# Altium integrated library Microchip PIC16 Part 1.IntLib: 1800 symbols (part 29 of 93)
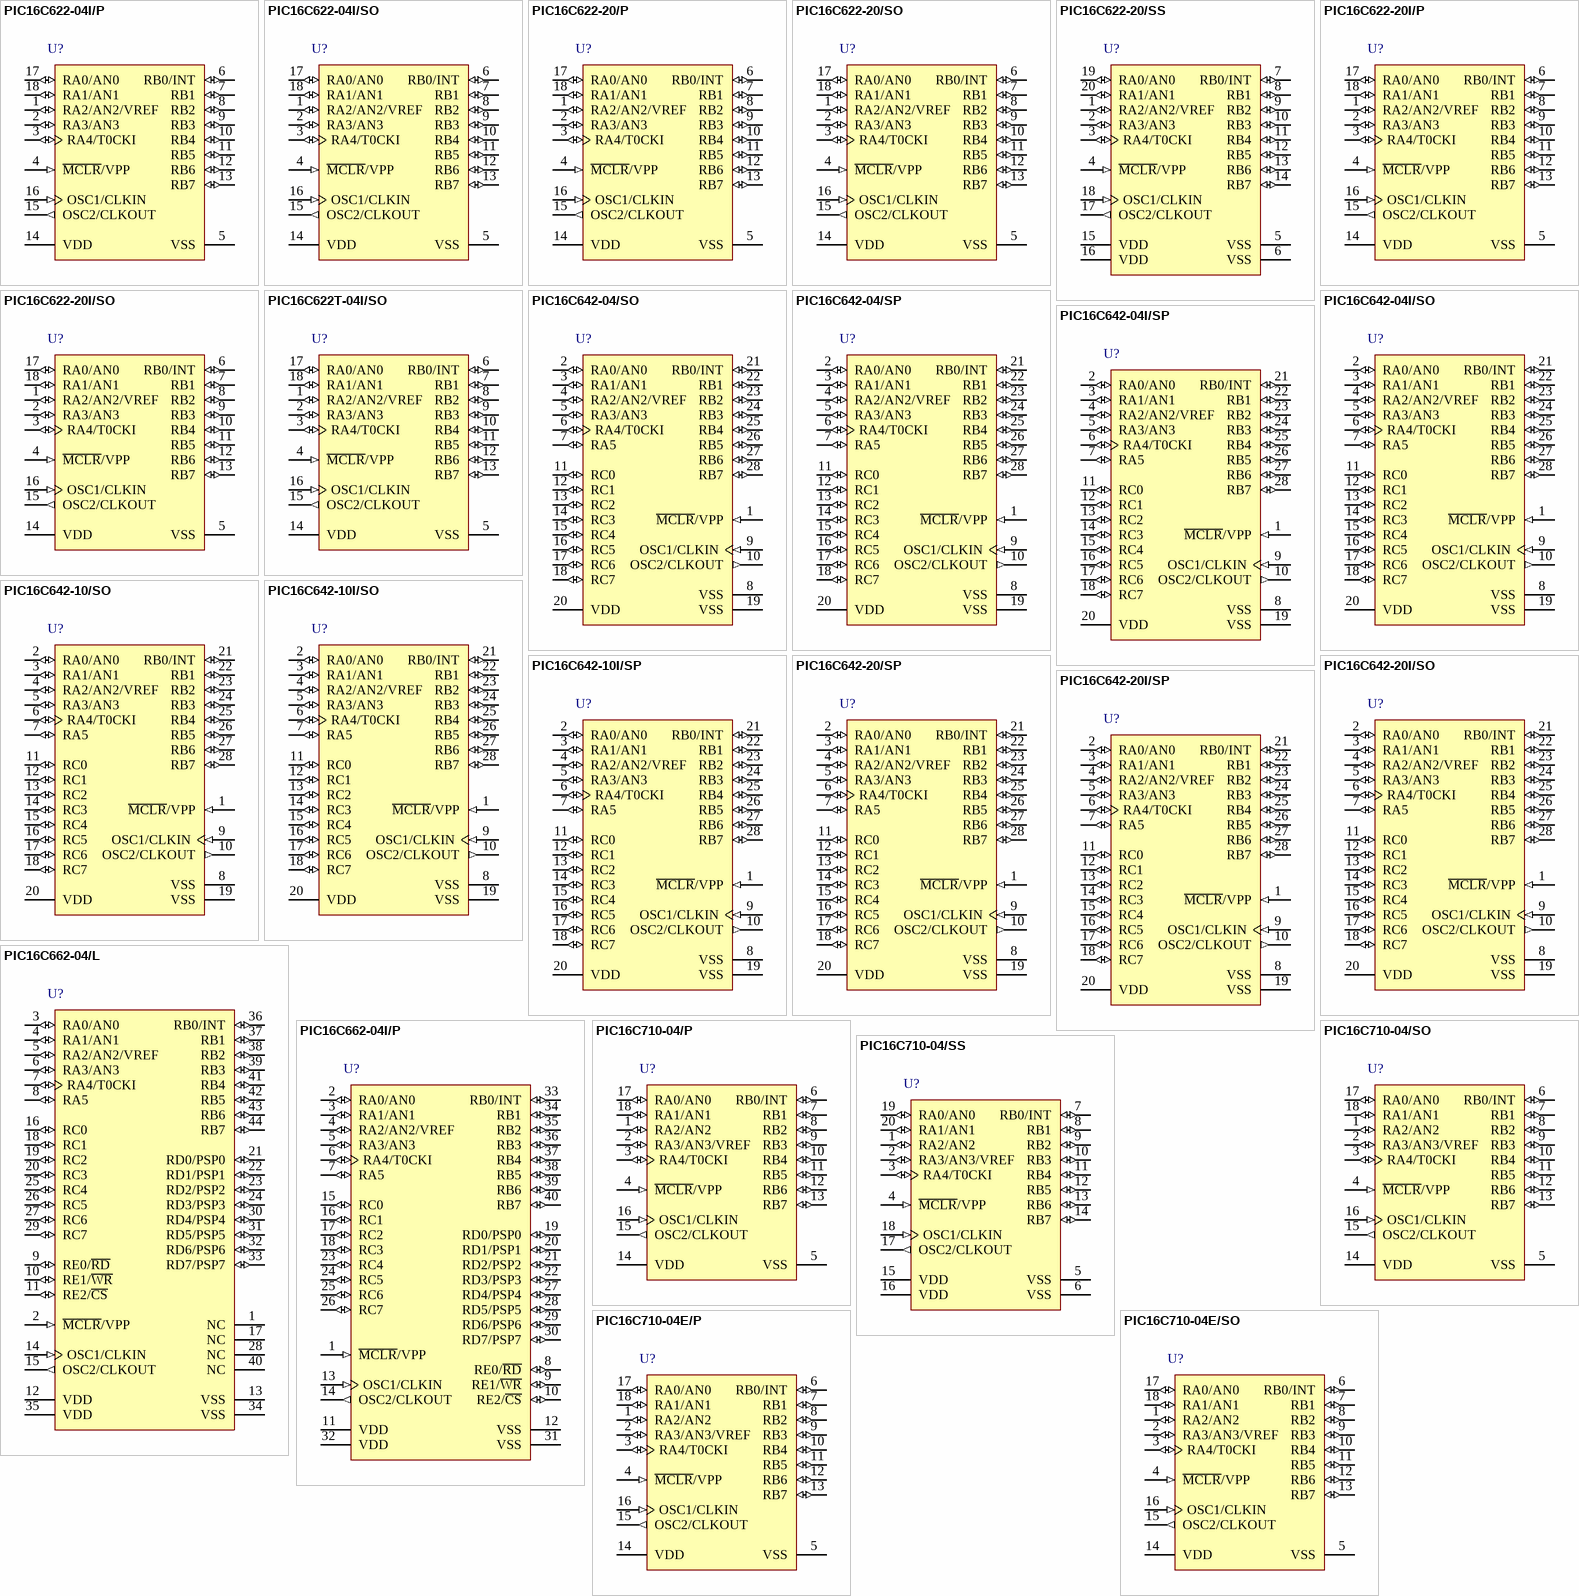
[diagram p128: symbols PIC16C622-04I/P to PIC16C710-04E/SO]

## PIC16C642-04I/SO
designator U?
8-Bit EPROM Microcontroller with Analog Comparator, 4 MHz, 22 I/O, -40 to 85 degC, 28-pin SOIC (SO28), Tube; Manufacturer: Microchip; PartNumber: PIC16C642-04I/SO; I/O Pins: 22; Max. CPU Speed MHz: 4; Memory Type: OTP; Operation Voltage Range: 3V - 6V; Program Memory KBytes: 7; RAM: 176; Timers: 1 - 8-bit; DatasheetVersion: Rev. A; PackageVersion: C04-052C, 12/2012; PackageReference: SOIC-SO28; PackageDescription: 28-Lead Plastic Small Outline, 17.9 x 7.5 mm Body, 1.27 mm Pitch; Supplier 1: Digi-Key; Supplier Part Number 1: PIC16C642-04I/SO-ND; Supplier 2: Mouser; Supplier Part Number 2: 579-PIC16C642-04I/SO; Packing: TUBE; Program Memory KWords: 4; RoHS: TRUE; Mounting Technology: Surface Mount; ComponentLink1Description: Datasheet; ComponentLink1URL: http://ww1.microchip.com/downloads/en/DeviceDoc/30559a.pdf; ComponentLink2Description: Package Specification; ComponentLink2URL: http://www.microchip.com/stellent/groups/techpub_sg/documents/packagingspec/en012702.pdf; ComponentLink3Description: URL Link1; ComponentLink3URL: Product URL:http://www.microchip.com/datasheet/PIC16C642
footprint MCHP-SOIC-SO28_N (SOIC, 28-Leads, Body 17.9x7.5mm, Pitch 1.27mm, IPC Medium Density)
footprint MCHP-SOIC-SO28_L (SOIC, 28-Leads, Body 17.9x7.5mm, Pitch 1.27mm, IPC High Density)
footprint MCHP-SOIC-SO28_M (SOIC, 28-Leads, Body 17.9x7.5mm, Pitch 1.27mm, IPC Low Density)
pins: 1 ~{MCLR}/VPP (in), 2 RA0/AN0 (io), 3 RA1/AN1 (io), 4 RA2/AN2/VREF (io), 5 RA3/AN3 (io), 6 RA4/T0CKI (io), 7 RA5 (io) "PORTA is a bi-directional I/O port.", 8 VSS (power) "Ground reference for logic and I/O pins.", 9 OSC1/CLKIN (in), 10 OSC2/CLKOUT (out), 11 RC0 (io) "PORTC is a bi-directional I/O port.", 12 RC1 (io) "PORTC is a bi-directional I/O port.", 13 RC2 (io) "PORTC is a bi-directional I/O port.", 14 RC3 (io) "PORTC is a bi-directional I/O port.", 15 RC4 (io) "PORTC is a bi-directional I/O port.", 16 RC5 (io) "PORTC is a bi-directional I/O port.", 17 RC6 (io) "PORTC is a bi-directional I/O port.", 18 RC7 (io) "PORTC is a bi-directional I/O port.", 19 VSS (power) "Ground reference for logic and I/O pins.", 20 VDD (power) "Positive supply for logic and I/O pins.", 21 RB0/INT (io), 22 RB1 (io) "PORTB is a bi-directional I/O port. PORTB can be software programmed for internal weak pull-up on all inputs.", 23 RB2 (io) "PORTB is a bi-directional I/O port. PORTB can be software programmed for internal weak pull-up on all inputs.", 24 RB3 (io) "PORTB is a bi-directional I/O port. PORTB can be software programmed for internal weak pull-up on all inputs.", 25 RB4 (io) "PORTB is a bi-directional I/O port. PORTB can be software programmed for internal weak pull-up on all inputs. Interrupt on change pin.", 26 RB5 (io) "PORTB is a bi-directional I/O port. PORTB can be software programmed for internal weak pull-up on all inputs. Interrupt on change pin.", 27 RB6 (io) "PORTB is a bi-directional I/O port. PORTB can be software programmed for internal weak pull-up on all inputs. Interrupt on change pin. Serial programming clock.", 28 RB7 (io) "PORTB is a bi-directional I/O port. PORTB can be software programmed for internal weak pull-up on all inputs. Interrupt on change pin. Serial programming data."

## PIC16C642-04I/SP
designator U?
8-Bit EPROM Microcontroller with Analog Comparator, 4 MHz, 22 I/O, -40 to 85 degC, 28-pin SPDIP (SP28), Tube; Manufacturer: Microchip; PartNumber: PIC16C642-04I/SP; I/O Pins: 22; Max. CPU Speed MHz: 4; Memory Type: OTP; Operation Voltage Range: 3V - 6V; Program Memory KBytes: 7; RAM: 176; Timers: 1 - 8-bit; DatasheetVersion: Rev. A; PackageVersion: C04-070B, 12/2012; PackageReference: SPDIP-SP28; PackageDescription: 28-Lead Plastic Dual In-Line, 34.86 x 6.79 mm Body, 2.54 mm Pitch; Supplier 1: Digi-Key; Supplier Part Number 1: PIC16C642-04I/SP-ND; Supplier 2: Mouser; Supplier Part Number 2: 579-PIC16C642-04I/SP; Packing: TUBE; Program Memory KWords: 4; RoHS: TRUE; Mounting Technology: Through Hole; ComponentLink1Description: Datasheet; ComponentLink1URL: http://ww1.microchip.com/downloads/en/DeviceDoc/30559a.pdf; ComponentLink2Description: Package Specification; ComponentLink2URL: http://www.microchip.com/stellent/groups/techpub_sg/documents/packagingspec/en012702.pdf; ComponentLink3Description: URL Link1; ComponentLink3URL: Product URL:http://www.microchip.com/datasheet/PIC16C642
footprint MCHP-SPDIP-SP28 (DIP, 28-Leads, Body 34.86x6.79mm, Pitch 2.54mm)
pins: 1 ~{MCLR}/VPP (in), 2 RA0/AN0 (io), 3 RA1/AN1 (io), 4 RA2/AN2/VREF (io), 5 RA3/AN3 (io), 6 RA4/T0CKI (io), 7 RA5 (io) "PORTA is a bi-directional I/O port.", 8 VSS (power) "Ground reference for logic and I/O pins.", 9 OSC1/CLKIN (in), 10 OSC2/CLKOUT (out), 11 RC0 (io) "PORTC is a bi-directional I/O port.", 12 RC1 (io) "PORTC is a bi-directional I/O port.", 13 RC2 (io) "PORTC is a bi-directional I/O port.", 14 RC3 (io) "PORTC is a bi-directional I/O port.", 15 RC4 (io) "PORTC is a bi-directional I/O port.", 16 RC5 (io) "PORTC is a bi-directional I/O port.", 17 RC6 (io) "PORTC is a bi-directional I/O port.", 18 RC7 (io) "PORTC is a bi-directional I/O port.", 19 VSS (power) "Ground reference for logic and I/O pins.", 20 VDD (power) "Positive supply for logic and I/O pins.", 21 RB0/INT (io), 22 RB1 (io) "PORTB is a bi-directional I/O port. PORTB can be software programmed for internal weak pull-up on all inputs.", 23 RB2 (io) "PORTB is a bi-directional I/O port. PORTB can be software programmed for internal weak pull-up on all inputs.", 24 RB3 (io) "PORTB is a bi-directional I/O port. PORTB can be software programmed for internal weak pull-up on all inputs.", 25 RB4 (io) "PORTB is a bi-directional I/O port. PORTB can be software programmed for internal weak pull-up on all inputs. Interrupt on change pin.", 26 RB5 (io) "PORTB is a bi-directional I/O port. PORTB can be software programmed for internal weak pull-up on all inputs. Interrupt on change pin.", 27 RB6 (io) "PORTB is a bi-directional I/O port. PORTB can be software programmed for internal weak pull-up on all inputs. Interrupt on change pin. Serial programming clock.", 28 RB7 (io) "PORTB is a bi-directional I/O port. PORTB can be software programmed for internal weak pull-up on all inputs. Interrupt on change pin. Serial programming data."

## PIC16C642-10/SO
designator U?
8-Bit EPROM Microcontroller with Analog Comparator, 10 MHz, 22 I/O, 0 to 70 degC, 28-pin SOIC (SO28), Tube; Manufacturer: Microchip; PartNumber: PIC16C642-10/SO; I/O Pins: 22; Max. CPU Speed MHz: 10; Memory Type: OTP; Operation Voltage Range: 3V - 6V; Program Memory KBytes: 7; Program Memory KWords: 4; RAM: 176; Timers: 1 - 8-bit; DatasheetVersion: Rev. A; PackageVersion: C04-052C, 12/2012; PackageReference: SOIC-SO28; PackageDescription: 28-Lead Plastic Small Outline, 17.9 x 7.5 mm Body, 1.27 mm Pitch; Supplier 1: Digi-Key; Supplier Part Number 1: PIC16C642-10/SO-ND; Supplier 2: Mouser; Supplier Part Number 2: 579-PIC16C642-10/SO; Packing: TUBE; RoHS: TRUE; Mounting Technology: Surface Mount; ComponentLink1Description: Datasheet; ComponentLink1URL: http://ww1.microchip.com/downloads/en/DeviceDoc/30559a.pdf; ComponentLink2Description: Package Specification; ComponentLink2URL: http://www.microchip.com/stellent/groups/techpub_sg/documents/packagingspec/en012702.pdf; ComponentLink3Description: URL Link1; ComponentLink3URL: Product URL:http://www.microchip.com/datasheet/PIC16C642
footprint MCHP-SOIC-SO28_N (SOIC, 28-Leads, Body 17.9x7.5mm, Pitch 1.27mm, IPC Medium Density)
footprint MCHP-SOIC-SO28_L (SOIC, 28-Leads, Body 17.9x7.5mm, Pitch 1.27mm, IPC High Density)
footprint MCHP-SOIC-SO28_M (SOIC, 28-Leads, Body 17.9x7.5mm, Pitch 1.27mm, IPC Low Density)
pins: 1 ~{MCLR}/VPP (in), 2 RA0/AN0 (io), 3 RA1/AN1 (io), 4 RA2/AN2/VREF (io), 5 RA3/AN3 (io), 6 RA4/T0CKI (io), 7 RA5 (io) "PORTA is a bi-directional I/O port.", 8 VSS (power) "Ground reference for logic and I/O pins.", 9 OSC1/CLKIN (in), 10 OSC2/CLKOUT (out), 11 RC0 (io) "PORTC is a bi-directional I/O port.", 12 RC1 (io) "PORTC is a bi-directional I/O port.", 13 RC2 (io) "PORTC is a bi-directional I/O port.", 14 RC3 (io) "PORTC is a bi-directional I/O port.", 15 RC4 (io) "PORTC is a bi-directional I/O port.", 16 RC5 (io) "PORTC is a bi-directional I/O port.", 17 RC6 (io) "PORTC is a bi-directional I/O port.", 18 RC7 (io) "PORTC is a bi-directional I/O port.", 19 VSS (power) "Ground reference for logic and I/O pins.", 20 VDD (power) "Positive supply for logic and I/O pins.", 21 RB0/INT (io), 22 RB1 (io) "PORTB is a bi-directional I/O port. PORTB can be software programmed for internal weak pull-up on all inputs.", 23 RB2 (io) "PORTB is a bi-directional I/O port. PORTB can be software programmed for internal weak pull-up on all inputs.", 24 RB3 (io) "PORTB is a bi-directional I/O port. PORTB can be software programmed for internal weak pull-up on all inputs.", 25 RB4 (io) "PORTB is a bi-directional I/O port. PORTB can be software programmed for internal weak pull-up on all inputs. Interrupt on change pin.", 26 RB5 (io) "PORTB is a bi-directional I/O port. PORTB can be software programmed for internal weak pull-up on all inputs. Interrupt on change pin.", 27 RB6 (io) "PORTB is a bi-directional I/O port. PORTB can be software programmed for internal weak pull-up on all inputs. Interrupt on change pin. Serial programming clock.", 28 RB7 (io) "PORTB is a bi-directional I/O port. PORTB can be software programmed for internal weak pull-up on all inputs. Interrupt on change pin. Serial programming data."

## PIC16C642-10I/SO
designator U?
8-Bit EPROM Microcontroller with Analog Comparator, 10 MHz, 22 I/O, -40 to 85 degC, 28-pin SOIC (SO28), Tube; Manufacturer: Microchip; PartNumber: PIC16C642-10I/SO; I/O Pins: 22; Max. CPU Speed MHz: 10; Memory Type: OTP; Operation Voltage Range: 3V - 6V; Program Memory KBytes: 7; Program Memory KWords: 4; RAM: 176; Timers: 1 - 8-bit; DatasheetVersion: Rev. A; PackageVersion: C04-052C, 12/2012; PackageReference: SOIC-SO28; PackageDescription: 28-Lead Plastic Small Outline, 17.9 x 7.5 mm Body, 1.27 mm Pitch; Supplier 1: Digi-Key; Supplier Part Number 1: PIC16C642-10I/SO-ND; Supplier 2: Mouser; Supplier Part Number 2: 579-PIC16C642-10I/SO; Packing: TUBE; RoHS: TRUE; Mounting Technology: Surface Mount; ComponentLink1Description: Datasheet; ComponentLink1URL: http://ww1.microchip.com/downloads/en/DeviceDoc/30559a.pdf; ComponentLink2Description: Package Specification; ComponentLink2URL: http://www.microchip.com/stellent/groups/techpub_sg/documents/packagingspec/en012702.pdf; ComponentLink3Description: URL Link1; ComponentLink3URL: Product URL:http://www.microchip.com/datasheet/PIC16C642
footprint MCHP-SOIC-SO28_N (SOIC, 28-Leads, Body 17.9x7.5mm, Pitch 1.27mm, IPC Medium Density)
footprint MCHP-SOIC-SO28_L (SOIC, 28-Leads, Body 17.9x7.5mm, Pitch 1.27mm, IPC High Density)
footprint MCHP-SOIC-SO28_M (SOIC, 28-Leads, Body 17.9x7.5mm, Pitch 1.27mm, IPC Low Density)
pins: 1 ~{MCLR}/VPP (in), 2 RA0/AN0 (io), 3 RA1/AN1 (io), 4 RA2/AN2/VREF (io), 5 RA3/AN3 (io), 6 RA4/T0CKI (io), 7 RA5 (io) "PORTA is a bi-directional I/O port.", 8 VSS (power) "Ground reference for logic and I/O pins.", 9 OSC1/CLKIN (in), 10 OSC2/CLKOUT (out), 11 RC0 (io) "PORTC is a bi-directional I/O port.", 12 RC1 (io) "PORTC is a bi-directional I/O port.", 13 RC2 (io) "PORTC is a bi-directional I/O port.", 14 RC3 (io) "PORTC is a bi-directional I/O port.", 15 RC4 (io) "PORTC is a bi-directional I/O port.", 16 RC5 (io) "PORTC is a bi-directional I/O port.", 17 RC6 (io) "PORTC is a bi-directional I/O port.", 18 RC7 (io) "PORTC is a bi-directional I/O port.", 19 VSS (power) "Ground reference for logic and I/O pins.", 20 VDD (power) "Positive supply for logic and I/O pins.", 21 RB0/INT (io), 22 RB1 (io) "PORTB is a bi-directional I/O port. PORTB can be software programmed for internal weak pull-up on all inputs.", 23 RB2 (io) "PORTB is a bi-directional I/O port. PORTB can be software programmed for internal weak pull-up on all inputs.", 24 RB3 (io) "PORTB is a bi-directional I/O port. PORTB can be software programmed for internal weak pull-up on all inputs.", 25 RB4 (io) "PORTB is a bi-directional I/O port. PORTB can be software programmed for internal weak pull-up on all inputs. Interrupt on change pin.", 26 RB5 (io) "PORTB is a bi-directional I/O port. PORTB can be software programmed for internal weak pull-up on all inputs. Interrupt on change pin.", 27 RB6 (io) "PORTB is a bi-directional I/O port. PORTB can be software programmed for internal weak pull-up on all inputs. Interrupt on change pin. Serial programming clock.", 28 RB7 (io) "PORTB is a bi-directional I/O port. PORTB can be software programmed for internal weak pull-up on all inputs. Interrupt on change pin. Serial programming data."

## PIC16C642-10I/SP
designator U?
8-Bit EPROM Microcontroller with Analog Comparator, 10 MHz, 22 I/O, -40 to 85 degC, 28-pin SPDIP (SP28), Tube; Manufacturer: Microchip; PartNumber: PIC16C642-10I/SP; I/O Pins: 22; Max. CPU Speed MHz: 10; Memory Type: OTP; Operation Voltage Range: 3V - 6V; Program Memory KBytes: 7; Program Memory KWords: 4; RAM: 176; Timers: 1 - 8-bit; DatasheetVersion: Rev. A; PackageVersion: C04-070B, 12/2012; PackageReference: SPDIP-SP28; PackageDescription: 28-Lead Plastic Dual In-Line, 34.86 x 6.79 mm Body, 2.54 mm Pitch; Supplier 1: Digi-Key; Supplier Part Number 1: PIC16C642-10I/SP-ND; Supplier 2: Mouser; Supplier Part Number 2: 579-PIC16C642-10I/SP; Packing: TUBE; RoHS: TRUE; Mounting Technology: Through Hole; ComponentLink1Description: Datasheet; ComponentLink1URL: http://ww1.microchip.com/downloads/en/DeviceDoc/30559a.pdf; ComponentLink2Description: Package Specification; ComponentLink2URL: http://www.microchip.com/stellent/groups/techpub_sg/documents/packagingspec/en012702.pdf; ComponentLink3Description: URL Link1; ComponentLink3URL: Product URL:http://www.microchip.com/datasheet/PIC16C642
footprint MCHP-SPDIP-SP28 (DIP, 28-Leads, Body 34.86x6.79mm, Pitch 2.54mm)
pins: 1 ~{MCLR}/VPP (in), 2 RA0/AN0 (io), 3 RA1/AN1 (io), 4 RA2/AN2/VREF (io), 5 RA3/AN3 (io), 6 RA4/T0CKI (io), 7 RA5 (io) "PORTA is a bi-directional I/O port.", 8 VSS (power) "Ground reference for logic and I/O pins.", 9 OSC1/CLKIN (in), 10 OSC2/CLKOUT (out), 11 RC0 (io) "PORTC is a bi-directional I/O port.", 12 RC1 (io) "PORTC is a bi-directional I/O port.", 13 RC2 (io) "PORTC is a bi-directional I/O port.", 14 RC3 (io) "PORTC is a bi-directional I/O port.", 15 RC4 (io) "PORTC is a bi-directional I/O port.", 16 RC5 (io) "PORTC is a bi-directional I/O port.", 17 RC6 (io) "PORTC is a bi-directional I/O port.", 18 RC7 (io) "PORTC is a bi-directional I/O port.", 19 VSS (power) "Ground reference for logic and I/O pins.", 20 VDD (power) "Positive supply for logic and I/O pins.", 21 RB0/INT (io), 22 RB1 (io) "PORTB is a bi-directional I/O port. PORTB can be software programmed for internal weak pull-up on all inputs.", 23 RB2 (io) "PORTB is a bi-directional I/O port. PORTB can be software programmed for internal weak pull-up on all inputs.", 24 RB3 (io) "PORTB is a bi-directional I/O port. PORTB can be software programmed for internal weak pull-up on all inputs.", 25 RB4 (io) "PORTB is a bi-directional I/O port. PORTB can be software programmed for internal weak pull-up on all inputs. Interrupt on change pin.", 26 RB5 (io) "PORTB is a bi-directional I/O port. PORTB can be software programmed for internal weak pull-up on all inputs. Interrupt on change pin.", 27 RB6 (io) "PORTB is a bi-directional I/O port. PORTB can be software programmed for internal weak pull-up on all inputs. Interrupt on change pin. Serial programming clock.", 28 RB7 (io) "PORTB is a bi-directional I/O port. PORTB can be software programmed for internal weak pull-up on all inputs. Interrupt on change pin. Serial programming data."

## PIC16C642-20/SP
designator U?
8-Bit EPROM Microcontroller with Analog Comparator, 20 MHz, 22 I/O, 0 to 70 degC, 28-pin SPDIP (SP28), Tube; Manufacturer: Microchip; PartNumber: PIC16C642-20/SP; I/O Pins: 22; Max. CPU Speed MHz: 20; Memory Type: OTP; Operation Voltage Range: 3V - 6V; Program Memory KBytes: 7; Program Memory KWords: 4; RAM: 176; Timers: 1 - 8-bit; DatasheetVersion: Rev. A; PackageVersion: C04-070B, 12/2012; PackageReference: SPDIP-SP28; PackageDescription: 28-Lead Plastic Dual In-Line, 34.86 x 6.79 mm Body, 2.54 mm Pitch; Supplier 1: Digi-Key; Supplier Part Number 1: PIC16C642-20/SP-ND; Supplier 2: Mouser; Supplier Part Number 2: 579-PIC16C642-20/SP; Packing: TUBE; RoHS: TRUE; Mounting Technology: Through Hole; ComponentLink1Description: Datasheet; ComponentLink1URL: http://ww1.microchip.com/downloads/en/DeviceDoc/30559a.pdf; ComponentLink2Description: Package Specification; ComponentLink2URL: http://www.microchip.com/stellent/groups/techpub_sg/documents/packagingspec/en012702.pdf; ComponentLink3Description: URL Link1; ComponentLink3URL: Product URL:http://www.microchip.com/datasheet/PIC16C642
footprint MCHP-SPDIP-SP28 (DIP, 28-Leads, Body 34.86x6.79mm, Pitch 2.54mm)
pins: 1 ~{MCLR}/VPP (in), 2 RA0/AN0 (io), 3 RA1/AN1 (io), 4 RA2/AN2/VREF (io), 5 RA3/AN3 (io), 6 RA4/T0CKI (io), 7 RA5 (io) "PORTA is a bi-directional I/O port.", 8 VSS (power) "Ground reference for logic and I/O pins.", 9 OSC1/CLKIN (in), 10 OSC2/CLKOUT (out), 11 RC0 (io) "PORTC is a bi-directional I/O port.", 12 RC1 (io) "PORTC is a bi-directional I/O port.", 13 RC2 (io) "PORTC is a bi-directional I/O port.", 14 RC3 (io) "PORTC is a bi-directional I/O port.", 15 RC4 (io) "PORTC is a bi-directional I/O port.", 16 RC5 (io) "PORTC is a bi-directional I/O port.", 17 RC6 (io) "PORTC is a bi-directional I/O port.", 18 RC7 (io) "PORTC is a bi-directional I/O port.", 19 VSS (power) "Ground reference for logic and I/O pins.", 20 VDD (power) "Positive supply for logic and I/O pins.", 21 RB0/INT (io), 22 RB1 (io) "PORTB is a bi-directional I/O port. PORTB can be software programmed for internal weak pull-up on all inputs.", 23 RB2 (io) "PORTB is a bi-directional I/O port. PORTB can be software programmed for internal weak pull-up on all inputs.", 24 RB3 (io) "PORTB is a bi-directional I/O port. PORTB can be software programmed for internal weak pull-up on all inputs.", 25 RB4 (io) "PORTB is a bi-directional I/O port. PORTB can be software programmed for internal weak pull-up on all inputs. Interrupt on change pin.", 26 RB5 (io) "PORTB is a bi-directional I/O port. PORTB can be software programmed for internal weak pull-up on all inputs. Interrupt on change pin.", 27 RB6 (io) "PORTB is a bi-directional I/O port. PORTB can be software programmed for internal weak pull-up on all inputs. Interrupt on change pin. Serial programming clock.", 28 RB7 (io) "PORTB is a bi-directional I/O port. PORTB can be software programmed for internal weak pull-up on all inputs. Interrupt on change pin. Serial programming data."

## PIC16C642-20I/SO
designator U?
8-Bit EPROM Microcontroller with Analog Comparator, 20 MHz, 22 I/O, -40 to 85 degC, 28-pin SOIC (SO28), Tube; Manufacturer: Microchip; PartNumber: PIC16C642-20I/SO; I/O Pins: 22; Max. CPU Speed MHz: 20; Memory Type: OTP; Operation Voltage Range: 3V - 6V; Program Memory KBytes: 7; Program Memory KWords: 4; RAM: 176; Timers: 1 - 8-bit; DatasheetVersion: Rev. A; PackageVersion: C04-052C, 12/2012; PackageReference: SOIC-SO28; PackageDescription: 28-Lead Plastic Small Outline, 17.9 x 7.5 mm Body, 1.27 mm Pitch; Supplier 1: Digi-Key; Supplier Part Number 1: PIC16C642-20I/SO-ND; Supplier 2: Mouser; Supplier Part Number 2: 579-PIC16C642-20I/SO; Packing: TUBE; RoHS: TRUE; Mounting Technology: Surface Mount; ComponentLink1Description: Datasheet; ComponentLink1URL: http://ww1.microchip.com/downloads/en/DeviceDoc/30559a.pdf; ComponentLink2Description: Package Specification; ComponentLink2URL: http://www.microchip.com/stellent/groups/techpub_sg/documents/packagingspec/en012702.pdf; ComponentLink3Description: URL Link1; ComponentLink3URL: Product URL:http://www.microchip.com/datasheet/PIC16C642
footprint MCHP-SOIC-SO28_N (SOIC, 28-Leads, Body 17.9x7.5mm, Pitch 1.27mm, IPC Medium Density)
footprint MCHP-SOIC-SO28_L (SOIC, 28-Leads, Body 17.9x7.5mm, Pitch 1.27mm, IPC High Density)
footprint MCHP-SOIC-SO28_M (SOIC, 28-Leads, Body 17.9x7.5mm, Pitch 1.27mm, IPC Low Density)
pins: 1 ~{MCLR}/VPP (in), 2 RA0/AN0 (io), 3 RA1/AN1 (io), 4 RA2/AN2/VREF (io), 5 RA3/AN3 (io), 6 RA4/T0CKI (io), 7 RA5 (io) "PORTA is a bi-directional I/O port.", 8 VSS (power) "Ground reference for logic and I/O pins.", 9 OSC1/CLKIN (in), 10 OSC2/CLKOUT (out), 11 RC0 (io) "PORTC is a bi-directional I/O port.", 12 RC1 (io) "PORTC is a bi-directional I/O port.", 13 RC2 (io) "PORTC is a bi-directional I/O port.", 14 RC3 (io) "PORTC is a bi-directional I/O port.", 15 RC4 (io) "PORTC is a bi-directional I/O port.", 16 RC5 (io) "PORTC is a bi-directional I/O port.", 17 RC6 (io) "PORTC is a bi-directional I/O port.", 18 RC7 (io) "PORTC is a bi-directional I/O port.", 19 VSS (power) "Ground reference for logic and I/O pins.", 20 VDD (power) "Positive supply for logic and I/O pins.", 21 RB0/INT (io), 22 RB1 (io) "PORTB is a bi-directional I/O port. PORTB can be software programmed for internal weak pull-up on all inputs.", 23 RB2 (io) "PORTB is a bi-directional I/O port. PORTB can be software programmed for internal weak pull-up on all inputs.", 24 RB3 (io) "PORTB is a bi-directional I/O port. PORTB can be software programmed for internal weak pull-up on all inputs.", 25 RB4 (io) "PORTB is a bi-directional I/O port. PORTB can be software programmed for internal weak pull-up on all inputs. Interrupt on change pin.", 26 RB5 (io) "PORTB is a bi-directional I/O port. PORTB can be software programmed for internal weak pull-up on all inputs. Interrupt on change pin.", 27 RB6 (io) "PORTB is a bi-directional I/O port. PORTB can be software programmed for internal weak pull-up on all inputs. Interrupt on change pin. Serial programming clock.", 28 RB7 (io) "PORTB is a bi-directional I/O port. PORTB can be software programmed for internal weak pull-up on all inputs. Interrupt on change pin. Serial programming data."

## PIC16C642-20I/SP
designator U?
8-Bit EPROM Microcontroller with Analog Comparator, 20 MHz, 22 I/O, -40 to 85 degC, 28-pin SPDIP (SP28), Tube; Manufacturer: Microchip; PartNumber: PIC16C642-20I/SP; I/O Pins: 22; Max. CPU Speed MHz: 20; Memory Type: OTP; Operation Voltage Range: 3V - 6V; Program Memory KBytes: 7; Program Memory KWords: 4; RAM: 176; Timers: 1 - 8-bit; DatasheetVersion: Rev. A; PackageVersion: C04-070B, 12/2012; PackageReference: SPDIP-SP28; PackageDescription: 28-Lead Plastic Dual In-Line, 34.86 x 6.79 mm Body, 2.54 mm Pitch; Supplier 1: Digi-Key; Supplier Part Number 1: PIC16C642-20I/SP-ND; Supplier 2: Mouser; Supplier Part Number 2: 579-PIC16C642-20I/SP; Packing: TUBE; RoHS: TRUE; Mounting Technology: Through Hole; ComponentLink1Description: Datasheet; ComponentLink1URL: http://ww1.microchip.com/downloads/en/DeviceDoc/30559a.pdf; ComponentLink2Description: Package Specification; ComponentLink2URL: http://www.microchip.com/stellent/groups/techpub_sg/documents/packagingspec/en012702.pdf; ComponentLink3Description: URL Link1; ComponentLink3URL: Product URL:http://www.microchip.com/datasheet/PIC16C642
footprint MCHP-SPDIP-SP28 (DIP, 28-Leads, Body 34.86x6.79mm, Pitch 2.54mm)
pins: 1 ~{MCLR}/VPP (in), 2 RA0/AN0 (io), 3 RA1/AN1 (io), 4 RA2/AN2/VREF (io), 5 RA3/AN3 (io), 6 RA4/T0CKI (io), 7 RA5 (io) "PORTA is a bi-directional I/O port.", 8 VSS (power) "Ground reference for logic and I/O pins.", 9 OSC1/CLKIN (in), 10 OSC2/CLKOUT (out), 11 RC0 (io) "PORTC is a bi-directional I/O port.", 12 RC1 (io) "PORTC is a bi-directional I/O port.", 13 RC2 (io) "PORTC is a bi-directional I/O port.", 14 RC3 (io) "PORTC is a bi-directional I/O port.", 15 RC4 (io) "PORTC is a bi-directional I/O port.", 16 RC5 (io) "PORTC is a bi-directional I/O port.", 17 RC6 (io) "PORTC is a bi-directional I/O port.", 18 RC7 (io) "PORTC is a bi-directional I/O port.", 19 VSS (power) "Ground reference for logic and I/O pins.", 20 VDD (power) "Positive supply for logic and I/O pins.", 21 RB0/INT (io), 22 RB1 (io) "PORTB is a bi-directional I/O port. PORTB can be software programmed for internal weak pull-up on all inputs.", 23 RB2 (io) "PORTB is a bi-directional I/O port. PORTB can be software programmed for internal weak pull-up on all inputs.", 24 RB3 (io) "PORTB is a bi-directional I/O port. PORTB can be software programmed for internal weak pull-up on all inputs.", 25 RB4 (io) "PORTB is a bi-directional I/O port. PORTB can be software programmed for internal weak pull-up on all inputs. Interrupt on change pin.", 26 RB5 (io) "PORTB is a bi-directional I/O port. PORTB can be software programmed for internal weak pull-up on all inputs. Interrupt on change pin.", 27 RB6 (io) "PORTB is a bi-directional I/O port. PORTB can be software programmed for internal weak pull-up on all inputs. Interrupt on change pin. Serial programming clock.", 28 RB7 (io) "PORTB is a bi-directional I/O port. PORTB can be software programmed for internal weak pull-up on all inputs. Interrupt on change pin. Serial programming data."

## PIC16C662-04/L
designator U?
8-Bit CMOS Microcontroller, 4 MHz, 33 I/O, 0 to 70 degC, 44-pin PLCC (L44), Tube; Manufacturer: Microchip; PartNumber: PIC16C662-04/L; I/O Pins: 33; Max. CPU Speed MHz: 4; Memory Type: OTP; Operation Voltage Range: 3V - 6V; Program Memory KBytes: 7; RAM: 176; Timers: 1 - 8-bit; DatasheetVersion: Rev. E; PackageVersion: C04-048B, 04/2013; PackageReference: PLCC-L44; PackageDescription: 44-Lead Plastic Leaded Chip Carrier, Body 16.5862 x 16.5862 mm, Pitch 1.27 mm; Supplier 1: Digi-Key; Supplier Part Number 1: PIC16C662-04/L-ND; Supplier 2: Newark; Supplier Part Number 2: 23C4297; Supplier 3: Mouser; Supplier Part Number 3: 579-PIC16C662-04/L; Packing: TUBE; Program Memory KWords: 4; RoHS: TRUE; Mounting Technology: Surface Mount; ComponentLink1Description: Datasheet; ComponentLink1URL: http://ww1.microchip.com/downloads/en/DeviceDoc/30234E.pdf; ComponentLink2Description: Package Specification; ComponentLink2URL: http://www.microchip.com/stellent/groups/techpub_sg/documents/packagingspec/en012702.pdf; ComponentLink3Description: URL Link1; ComponentLink3URL: Product URL:http://www.microchip.com/datasheet/PIC16C662
footprint MCHP-PLCC-L44_N (PLCC, 44-Leads, Body 16.586x16.586mm, Pitch 1.27mm, IPC Medium Density)
footprint MCHP-PLCC-L44_L (PLCC, 44-Leads, Body 16.586x16.586mm, Pitch 1.27mm, IPC High Density)
footprint MCHP-PLCC-L44_M (PLCC, 44-Leads, Body 16.586x16.586mm, Pitch 1.27mm, IPC Low Density)
pins: 1 NC "Not Connected.", 2 ~{MCLR}/VPP (in), 3 RA0/AN0 (io), 4 RA1/AN1 (io), 5 RA2/AN2/VREF (io), 6 RA3/AN3 (io), 7 RA4/T0CKI (io), 8 RA5 (io) "PORTA is a bi-directional I/O port.", 9 RE0/~{RD} (io), 10 RE1/~{WR} (io), 11 RE2/~{CS} (io), 12 VDD (power) "Positive supply for logic and I/O pins.", 13 VSS (power) "Ground reference for logic and I/O pins.", 14 OSC1/CLKIN (in), 15 OSC2/CLKOUT (out), 16 RC0 (io) "PORTC is a bi-directional I/O port.", 17 NC "Not Connected.", 18 RC1 (io) "PORTC is a bi-directional I/O port.", 19 RC2 (io) "PORTC is a bi-directional I/O port.", 20 RC3 (io) "PORTC is a bi-directional I/O port.", 21 RD0/PSP0 (io), 22 RD1/PSP1 (io), 23 RD2/PSP2 (io), 24 RD3/PSP3 (io), 25 RC4 (io) "PORTC is a bi-directional I/O port.", 26 RC5 (io) "PORTC is a bi-directional I/O port.", 27 RC6 (io) "PORTC is a bi-directional I/O port.", 28 NC "Not Connected.", 29 RC7 (io) "PORTC is a bi-directional I/O port.", 30 RD4/PSP4 (io), 31 RD5/PSP5 (io), 32 RD6/PSP6 (io), 33 RD7/PSP7 (io), 34 VSS (power) "Ground reference for logic and I/O pins.", 35 VDD (power) "Positive supply for logic and I/O pins.", 36 RB0/INT (io), 37 RB1 (io) "PORTB is a bi-directional I/O port. PORTB can be software programmed for internal weak pull-up on all inputs.", 38 RB2 (io) "PORTB is a bi-directional I/O port. PORTB can be software programmed for internal weak pull-up on all inputs.", 39 RB3 (io) "PORTB is a bi-directional I/O port. PORTB can be software programmed for internal weak pull-up on all inputs.", 40 NC "Not Connected.", 41 RB4 (io) "PORTB is a bi-directional I/O port. PORTB can be software programmed for internal weak pull-up on all inputs. Interrupt on change pin.", 42 RB5 (io) "PORTB is a bi-directional I/O port. PORTB can be software programmed for internal weak pull-up on all inputs. Interrupt on change pin.", 43 RB6 (io) "PORTB is a bi-directional I/O port. PORTB can be software programmed for internal weak pull-up on all inputs. Interrupt on change pin. Serial programming clock.", 44 RB7 (io) "PORTB is a bi-directional I/O port. PORTB can be software programmed for internal weak pull-up on all inputs. Interrupt on change pin. Serial programming data."

## PIC16C662-04I/P
designator U?
8-Bit CMOS Microcontroller, 4 MHz, 33 I/O, -40 to 85 degC, 40-pin PDIP (P40), Tube; Manufacturer: Microchip; PartNumber: PIC16C662-04I/P; I/O Pins: 33; Max. CPU Speed MHz: 4; Memory Type: OTP; Operation Voltage Range: 3V - 6V; Program Memory KBytes: 7; RAM: 176; Timers: 1 - 8-bit; DatasheetVersion: Rev. E; PackageVersion: C04-016B, 04/2013; PackageReference: PDIP-P40; PackageDescription: 40-Lead Plastic Dual In-Line Package, Body 51.75 x 13.53 mm, Pitch 2.54 mm; Supplier 1: Digi-Key; Supplier Part Number 1: PIC16C662-04I/P-ND; Supplier 2: Mouser; Supplier Part Number 2: 579-PIC16C662-04I/P; Packing: TUBE; Program Memory KWords: 4; RoHS: TRUE; Mounting Technology: Through Hole; ComponentLink1Description: Datasheet; ComponentLink1URL: http://ww1.microchip.com/downloads/en/DeviceDoc/30234E.pdf; ComponentLink2Description: Package Specification; ComponentLink2URL: http://www.microchip.com/stellent/groups/techpub_sg/documents/packagingspec/en012702.pdf; ComponentLink3Description: URL Link1; ComponentLink3URL: Product URL:http://www.microchip.com/datasheet/PIC16C662
footprint MCHP-PDIP-P40 (PDIP, 40-Leads, Body 51.75x13.53mm, Pitch 2.54mm)
pins: 1 ~{MCLR}/VPP (in), 2 RA0/AN0 (io), 3 RA1/AN1 (io), 4 RA2/AN2/VREF (io), 5 RA3/AN3 (io), 6 RA4/T0CKI (io), 7 RA5 (io) "PORTA is a bi-directional I/O port.", 8 RE0/~{RD} (io), 9 RE1/~{WR} (io), 10 RE2/~{CS} (io), 11 VDD (power) "Positive supply for logic and I/O pins.", 12 VSS (power) "Ground reference for logic and I/O pins.", 13 OSC1/CLKIN (in), 14 OSC2/CLKOUT (out), 15 RC0 (io) "PORTC is a bi-directional I/O port.", 16 RC1 (io) "PORTC is a bi-directional I/O port.", 17 RC2 (io) "PORTC is a bi-directional I/O port.", 18 RC3 (io) "PORTC is a bi-directional I/O port.", 19 RD0/PSP0 (io), 20 RD1/PSP1 (io), 21 RD2/PSP2 (io), 22 RD3/PSP3 (io), 23 RC4 (io) "PORTC is a bi-directional I/O port.", 24 RC5 (io) "PORTC is a bi-directional I/O port.", 25 RC6 (io) "PORTC is a bi-directional I/O port.", 26 RC7 (io) "PORTC is a bi-directional I/O port.", 27 RD4/PSP4 (io), 28 RD5/PSP5 (io), 29 RD6/PSP6 (io), 30 RD7/PSP7 (io), 31 VSS (power) "Ground reference for logic and I/O pins.", 32 VDD (power) "Positive supply for logic and I/O pins.", 33 RB0/INT (io), 34 RB1 (io) "PORTB is a bi-directional I/O port. PORTB can be software programmed for internal weak pull-up on all inputs.", 35 RB2 (io) "PORTB is a bi-directional I/O port. PORTB can be software programmed for internal weak pull-up on all inputs.", 36 RB3 (io) "PORTB is a bi-directional I/O port. PORTB can be software programmed for internal weak pull-up on all inputs.", 37 RB4 (io) "PORTB is a bi-directional I/O port. PORTB can be software programmed for internal weak pull-up on all inputs. Interrupt on change pin.", 38 RB5 (io) "PORTB is a bi-directional I/O port. PORTB can be software programmed for internal weak pull-up on all inputs. Interrupt on change pin.", 39 RB6 (io) "PORTB is a bi-directional I/O port. PORTB can be software programmed for internal weak pull-up on all inputs. Interrupt on change pin. Serial programming clock.", 40 RB7 (io) "PORTB is a bi-directional I/O port. PORTB can be software programmed for internal weak pull-up on all inputs. Interrupt on change pin. Serial programming data."

## PIC16C710-04/P
designator U?
8-Bit CMOS Microcontroller with A/D Converter, 4 MHz, 13 I/O, 0 to 70 degC, 18-pin PDIP (P18), Tube; Manufacturer: Microchip; PartNumber: PIC16C710-04/P; # of A/D Channels: 4; I/O Pins: 13; Memory Type: OTP; Operation Voltage Range: 2.5V - 6V; Program Memory KBytes: 0.875; Program Memory KWords: 0.5; RAM: 36; Timers: 1 - 8-bit; DatasheetVersion: Rev. A; PackageVersion: C04-007B, 12/2012; PackageReference: PDIP-P18; PackageDescription: 18-Lead Plastic Dual In-Line, Row Spacing 7.62 mm, 22.86 x 6.6 mm Body, 2.54 mm Pitch; Supplier 1: Digi-Key; Supplier Part Number 1: PIC16C710-04/P-ND; Supplier 2: Farnell; Supplier Part Number 2: 1084357; Supplier 3: Newark; Supplier Part Number 3: 96K3823; Supplier 4: Mouser; Supplier Part Number 4: 579-PIC16C710-04/P; Max. CPU Speed MHz: 4; Packing: TUBE; RoHS: TRUE; Mounting Technology: Through Hole; ComponentLink1Description: Datasheet; ComponentLink1URL: http://ww1.microchip.com/downloads/en/DeviceDoc/30272a.pdf; ComponentLink2Description: Package Specification; ComponentLink2URL: http://www.microchip.com/stellent/groups/techpub_sg/documents/packagingspec/en012702.pdf; ComponentLink3Description: URL Link1; ComponentLink3URL: Product URL:http://www.microchip.com/datasheet/PIC16C710
footprint MCHP-PDIP-P18 (DIP, 18-Leads, Body 22.83x6.604mm, Pitch 2.54mm)
pins: 1 RA2/AN2 (io), 2 RA3/AN3/VREF (io), 3 RA4/T0CKI (io), 4 ~{MCLR}/VPP (in), 5 VSS (power) "Ground reference for logic and I/O pins.", 6 RB0/INT (io), 7 RB1 (io) "PORTB is a bi-directional I/O port. PORTB can be software programmed for internal weak pull-up on all inputs.", 8 RB2 (io) "PORTB is a bi-directional I/O port. PORTB can be software programmed for internal weak pull-up on all inputs.", 9 RB3 (io) "PORTB is a bi-directional I/O port. PORTB can be software programmed for internal weak pull-up on all inputs.", 10 RB4 (io) "PORTB is a bi-directional I/O port. PORTB can be software programmed for internal weak pull-up on all inputs. Interrupt on change pin.", 11 RB5 (io) "PORTB is a bi-directional I/O port. PORTB can be software programmed for internal weak pull-up on all inputs. Interrupt on change pin.", 12 RB6 (io) "PORTB is a bi-directional I/O port. PORTB can be software programmed for internal weak pull-up on all inputs. Interrupt on change pin. Serial programming clock.", 13 RB7 (io) "PORTB is a bi-directional I/O port. PORTB can be software programmed for internal weak pull-up on all inputs. Interrupt on change pin. Serial programming data", 14 VDD (power) "Positive supply for logic and I/O pins.", 15 OSC2/CLKOUT (out), 16 OSC1/CLKIN (in), 17 RA0/AN0 (io), 18 RA1/AN1 (io)

## PIC16C710-04/SO
designator U?
8-Bit CMOS Microcontroller with A/D Converter, 4 MHz, 13 I/O, 0 to 70 degC, 18-pin SOIC (SO18), Tube; Manufacturer: Microchip; PartNumber: PIC16C710-04/SO; # of A/D Channels: 4; I/O Pins: 13; Memory Type: OTP; Operation Voltage Range: 2.5V - 6V; Program Memory KBytes: 0.875; Program Memory KWords: 0.5; RAM: 36; Timers: 1 - 8-bit; DatasheetVersion: Rev. A; PackageVersion: C04-051C, 12/2012; PackageReference: SOIC-SO18; PackageDescription: 18-Lead Plastic Small Outline, 7.5 x 11.55 mm Body, 1.27 mm Pitch; Supplier 1: Digi-Key; Supplier Part Number 1: PIC16C710-04/SO-ND; Supplier 2: Newark; Supplier Part Number 2: 96K3824; Supplier 3: Mouser; Supplier Part Number 3: 579-PIC16C710-04/SO; Max. CPU Speed MHz: 4; Packing: TUBE; RoHS: TRUE; Mounting Technology: Surface Mount; ComponentLink1Description: Datasheet; ComponentLink1URL: http://ww1.microchip.com/downloads/en/DeviceDoc/30272a.pdf; ComponentLink2Description: Package Specification; ComponentLink2URL: http://www.microchip.com/stellent/groups/techpub_sg/documents/packagingspec/en012702.pdf; ComponentLink3Description: URL Link1; ComponentLink3URL: Product URL:http://www.microchip.com/datasheet/PIC16C710
footprint MCHP-SOIC-SO18_N (SOIC, 18-Leads, Body 11.55x7.5mm, Pitch 1.27mm, IPC Medium Density)
footprint MCHP-SOIC-SO18_L (SOIC, 18-Leads, Body 11.55x7.5mm, Pitch 1.27mm, IPC High Density)
footprint MCHP-SOIC-SO18_M (SOIC, 18-Leads, Body 11.55x7.5mm, Pitch 1.27mm, IPC Low Density)
pins: 1 RA2/AN2 (io), 2 RA3/AN3/VREF (io), 3 RA4/T0CKI (io), 4 ~{MCLR}/VPP (in), 5 VSS (power) "Ground reference for logic and I/O pins.", 6 RB0/INT (io), 7 RB1 (io) "PORTB is a bi-directional I/O port. PORTB can be software programmed for internal weak pull-up on all inputs.", 8 RB2 (io) "PORTB is a bi-directional I/O port. PORTB can be software programmed for internal weak pull-up on all inputs.", 9 RB3 (io) "PORTB is a bi-directional I/O port. PORTB can be software programmed for internal weak pull-up on all inputs.", 10 RB4 (io) "PORTB is a bi-directional I/O port. PORTB can be software programmed for internal weak pull-up on all inputs. Interrupt on change pin.", 11 RB5 (io) "PORTB is a bi-directional I/O port. PORTB can be software programmed for internal weak pull-up on all inputs. Interrupt on change pin.", 12 RB6 (io) "PORTB is a bi-directional I/O port. PORTB can be software programmed for internal weak pull-up on all inputs. Interrupt on change pin. Serial programming clock.", 13 RB7 (io) "PORTB is a bi-directional I/O port. PORTB can be software programmed for internal weak pull-up on all inputs. Interrupt on change pin. Serial programming data", 14 VDD (power) "Positive supply for logic and I/O pins.", 15 OSC2/CLKOUT (out), 16 OSC1/CLKIN (in), 17 RA0/AN0 (io), 18 RA1/AN1 (io)

## PIC16C710-04/SS
designator U?
8-Bit CMOS Microcontroller with A/D Converter, 4 MHz, 13 I/O, 0 to 70 degC, 20-pin SSOP (SS20), Tube; Manufacturer: Microchip; PartNumber: PIC16C710-04/SS; # of A/D Channels: 4; I/O Pins: 13; Memory Type: OTP; Operation Voltage Range: 2.5V - 6V; Program Memory KBytes: 0.875; Program Memory KWords: 0.5; RAM: 36; Timers: 1 - 8-bit; DatasheetVersion: Rev. A; PackageVersion: C04-072B, 12/2012; PackageReference: SSOP-SS20; PackageDescription: 20-Lead Plastic Shrink Small Outline, 5.3 x 7.2 mm Body, 0.65 mm Pitch; Supplier 1: Digi-Key; Supplier Part Number 1: PIC16C710-04/SS-ND; Supplier 2: Mouser; Supplier Part Number 2: 579-PIC16C710-04/SS; Max. CPU Speed MHz: 4; Packing: TUBE; RoHS: TRUE; Mounting Technology: Surface Mount; ComponentLink1Description: Datasheet; ComponentLink1URL: http://ww1.microchip.com/downloads/en/DeviceDoc/30272a.pdf; ComponentLink2Description: Package Specification; ComponentLink2URL: http://www.microchip.com/stellent/groups/techpub_sg/documents/packagingspec/en012702.pdf; ComponentLink3Description: URL Link1; ComponentLink3URL: Product URL:http://www.microchip.com/datasheet/PIC16C710
footprint MCHP-SSOP-SS20_N (SOP, 20-Leads, Body 7.2x5.3mm, Pitch 0.65mm, IPC Medium Density)
footprint MCHP-SSOP-SS20_L (SOP, 20-Leads, Body 7.2x5.3mm, Pitch 0.65mm, IPC High Density)
footprint MCHP-SSOP-SS20_M (SOP, 20-Leads, Body 7.2x5.3mm, Pitch 0.65mm, IPC Low Density)
pins: 1 RA2/AN2 (io), 2 RA3/AN3/VREF (io), 3 RA4/T0CKI (io), 4 ~{MCLR}/VPP (in), 5 VSS (power) "Ground reference for logic and I/O pins.", 6 VSS (power) "Ground reference for logic and I/O pins.", 7 RB0/INT (io), 8 RB1 (io) "PORTB is a bi-directional I/O port. PORTB can be software programmed for internal weak pull-up on all inputs.", 9 RB2 (io) "PORTB is a bi-directional I/O port. PORTB can be software programmed for internal weak pull-up on all inputs.", 10 RB3 (io) "PORTB is a bi-directional I/O port. PORTB can be software programmed for internal weak pull-up on all inputs.", 11 RB4 (io) "PORTB is a bi-directional I/O port. PORTB can be software programmed for internal weak pull-up on all inputs. Interrupt-on-change pin.", 12 RB5 (io) "PORTB is a bi-directional I/O port. PORTB can be software programmed for internal weak pull-up on all inputs. Interrupt-on-change pin.", 13 RB6 (io) "PORTB is a bi-directional I/O port. PORTB can be software programmed for internal weak pull-up on all inputs. Interrupt-on-change pin. Serial programming clock", 14 RB7 (io) "PORTB is a bi-directional I/O port. PORTB can be software programmed for internal weak pull-up on all inputs. Interrupt-on-change pin. Serial programming data", 15 VDD (power) "Positive supply for logic and I/O pins", 16 VDD (power) "Positive supply for logic and I/O pins", 17 OSC2/CLKOUT (out), 18 OSC1/CLKIN (in), 19 RA0/AN0 (io), 20 RA1/AN1 (io)

## PIC16C710-04E/P
designator U?
8-Bit CMOS Microcontroller with A/D Converter, 4 MHz, 13 I/O, -40 to 125 degC, 18-pin PDIP (P18), Tube; Manufacturer: Microchip; PartNumber: PIC16C710-04E/P; # of A/D Channels: 4; I/O Pins: 13; Memory Type: OTP; Operation Voltage Range: 2.5V - 6V; Program Memory KBytes: 0.875; Program Memory KWords: 0.5; RAM: 36; Timers: 1 - 8-bit; DatasheetVersion: Rev. A; PackageVersion: C04-007B, 12/2012; PackageReference: PDIP-P18; PackageDescription: 18-Lead Plastic Dual In-Line, Row Spacing 7.62 mm, 22.86 x 6.6 mm Body, 2.54 mm Pitch; Supplier 1: Digi-Key; Supplier Part Number 1: PIC16C710-04E/P-ND; Supplier 2: Mouser; Supplier Part Number 2: 579-PIC16C710-04E/P; Max. CPU Speed MHz: 4; Packing: TUBE; RoHS: TRUE; Mounting Technology: Through Hole; ComponentLink1Description: Datasheet; ComponentLink1URL: http://ww1.microchip.com/downloads/en/DeviceDoc/30272a.pdf; ComponentLink2Description: Package Specification; ComponentLink2URL: http://www.microchip.com/stellent/groups/techpub_sg/documents/packagingspec/en012702.pdf; ComponentLink3Description: URL Link1; ComponentLink3URL: Product URL:http://www.microchip.com/datasheet/PIC16C710
footprint MCHP-PDIP-P18 (DIP, 18-Leads, Body 22.83x6.604mm, Pitch 2.54mm)
pins: 1 RA2/AN2 (io), 2 RA3/AN3/VREF (io), 3 RA4/T0CKI (io), 4 ~{MCLR}/VPP (in), 5 VSS (power) "Ground reference for logic and I/O pins.", 6 RB0/INT (io), 7 RB1 (io) "PORTB is a bi-directional I/O port. PORTB can be software programmed for internal weak pull-up on all inputs.", 8 RB2 (io) "PORTB is a bi-directional I/O port. PORTB can be software programmed for internal weak pull-up on all inputs.", 9 RB3 (io) "PORTB is a bi-directional I/O port. PORTB can be software programmed for internal weak pull-up on all inputs.", 10 RB4 (io) "PORTB is a bi-directional I/O port. PORTB can be software programmed for internal weak pull-up on all inputs. Interrupt on change pin.", 11 RB5 (io) "PORTB is a bi-directional I/O port. PORTB can be software programmed for internal weak pull-up on all inputs. Interrupt on change pin.", 12 RB6 (io) "PORTB is a bi-directional I/O port. PORTB can be software programmed for internal weak pull-up on all inputs. Interrupt on change pin. Serial programming clock.", 13 RB7 (io) "PORTB is a bi-directional I/O port. PORTB can be software programmed for internal weak pull-up on all inputs. Interrupt on change pin. Serial programming data", 14 VDD (power) "Positive supply for logic and I/O pins.", 15 OSC2/CLKOUT (out), 16 OSC1/CLKIN (in), 17 RA0/AN0 (io), 18 RA1/AN1 (io)

## PIC16C710-04E/SO
designator U?
8-Bit CMOS Microcontroller with A/D Converter, 4 MHz, 13 I/O, -40 to 125 degC, 18-pin SOIC (SO18), Tube; Manufacturer: Microchip; PartNumber: PIC16C710-04E/SO; # of A/D Channels: 4; I/O Pins: 13; Memory Type: OTP; Operation Voltage Range: 2.5V - 6V; Program Memory KBytes: 0.875; Program Memory KWords: 0.5; RAM: 36; Timers: 1 - 8-bit; DatasheetVersion: Rev. A; PackageVersion: C04-051C, 12/2012; PackageReference: SOIC-SO18; PackageDescription: 18-Lead Plastic Small Outline, 7.5 x 11.55 mm Body, 1.27 mm Pitch; Supplier 1: Digi-Key; Supplier Part Number 1: PIC16C710-04E/SO-ND; Supplier 2: Mouser; Supplier Part Number 2: 579-PIC16C710-04E/SO; Max. CPU Speed MHz: 4; Packing: TUBE; RoHS: TRUE; Mounting Technology: Surface Mount; ComponentLink1Description: Datasheet; ComponentLink1URL: http://ww1.microchip.com/downloads/en/DeviceDoc/30272a.pdf; ComponentLink2Description: Package Specification; ComponentLink2URL: http://www.microchip.com/stellent/groups/techpub_sg/documents/packagingspec/en012702.pdf; ComponentLink3Description: URL Link1; ComponentLink3URL: Product URL:http://www.microchip.com/datasheet/PIC16C710
footprint MCHP-SOIC-SO18_N (SOIC, 18-Leads, Body 11.55x7.5mm, Pitch 1.27mm, IPC Medium Density)
footprint MCHP-SOIC-SO18_L (SOIC, 18-Leads, Body 11.55x7.5mm, Pitch 1.27mm, IPC High Density)
footprint MCHP-SOIC-SO18_M (SOIC, 18-Leads, Body 11.55x7.5mm, Pitch 1.27mm, IPC Low Density)
pins: 1 RA2/AN2 (io), 2 RA3/AN3/VREF (io), 3 RA4/T0CKI (io), 4 ~{MCLR}/VPP (in), 5 VSS (power) "Ground reference for logic and I/O pins.", 6 RB0/INT (io), 7 RB1 (io) "PORTB is a bi-directional I/O port. PORTB can be software programmed for internal weak pull-up on all inputs.", 8 RB2 (io) "PORTB is a bi-directional I/O port. PORTB can be software programmed for internal weak pull-up on all inputs.", 9 RB3 (io) "PORTB is a bi-directional I/O port. PORTB can be software programmed for internal weak pull-up on all inputs.", 10 RB4 (io) "PORTB is a bi-directional I/O port. PORTB can be software programmed for internal weak pull-up on all inputs. Interrupt on change pin.", 11 RB5 (io) "PORTB is a bi-directional I/O port. PORTB can be software programmed for internal weak pull-up on all inputs. Interrupt on change pin.", 12 RB6 (io) "PORTB is a bi-directional I/O port. PORTB can be software programmed for internal weak pull-up on all inputs. Interrupt on change pin. Serial programming clock.", 13 RB7 (io) "PORTB is a bi-directional I/O port. PORTB can be software programmed for internal weak pull-up on all inputs. Interrupt on change pin. Serial programming data", 14 VDD (power) "Positive supply for logic and I/O pins.", 15 OSC2/CLKOUT (out), 16 OSC1/CLKIN (in), 17 RA0/AN0 (io), 18 RA1/AN1 (io)

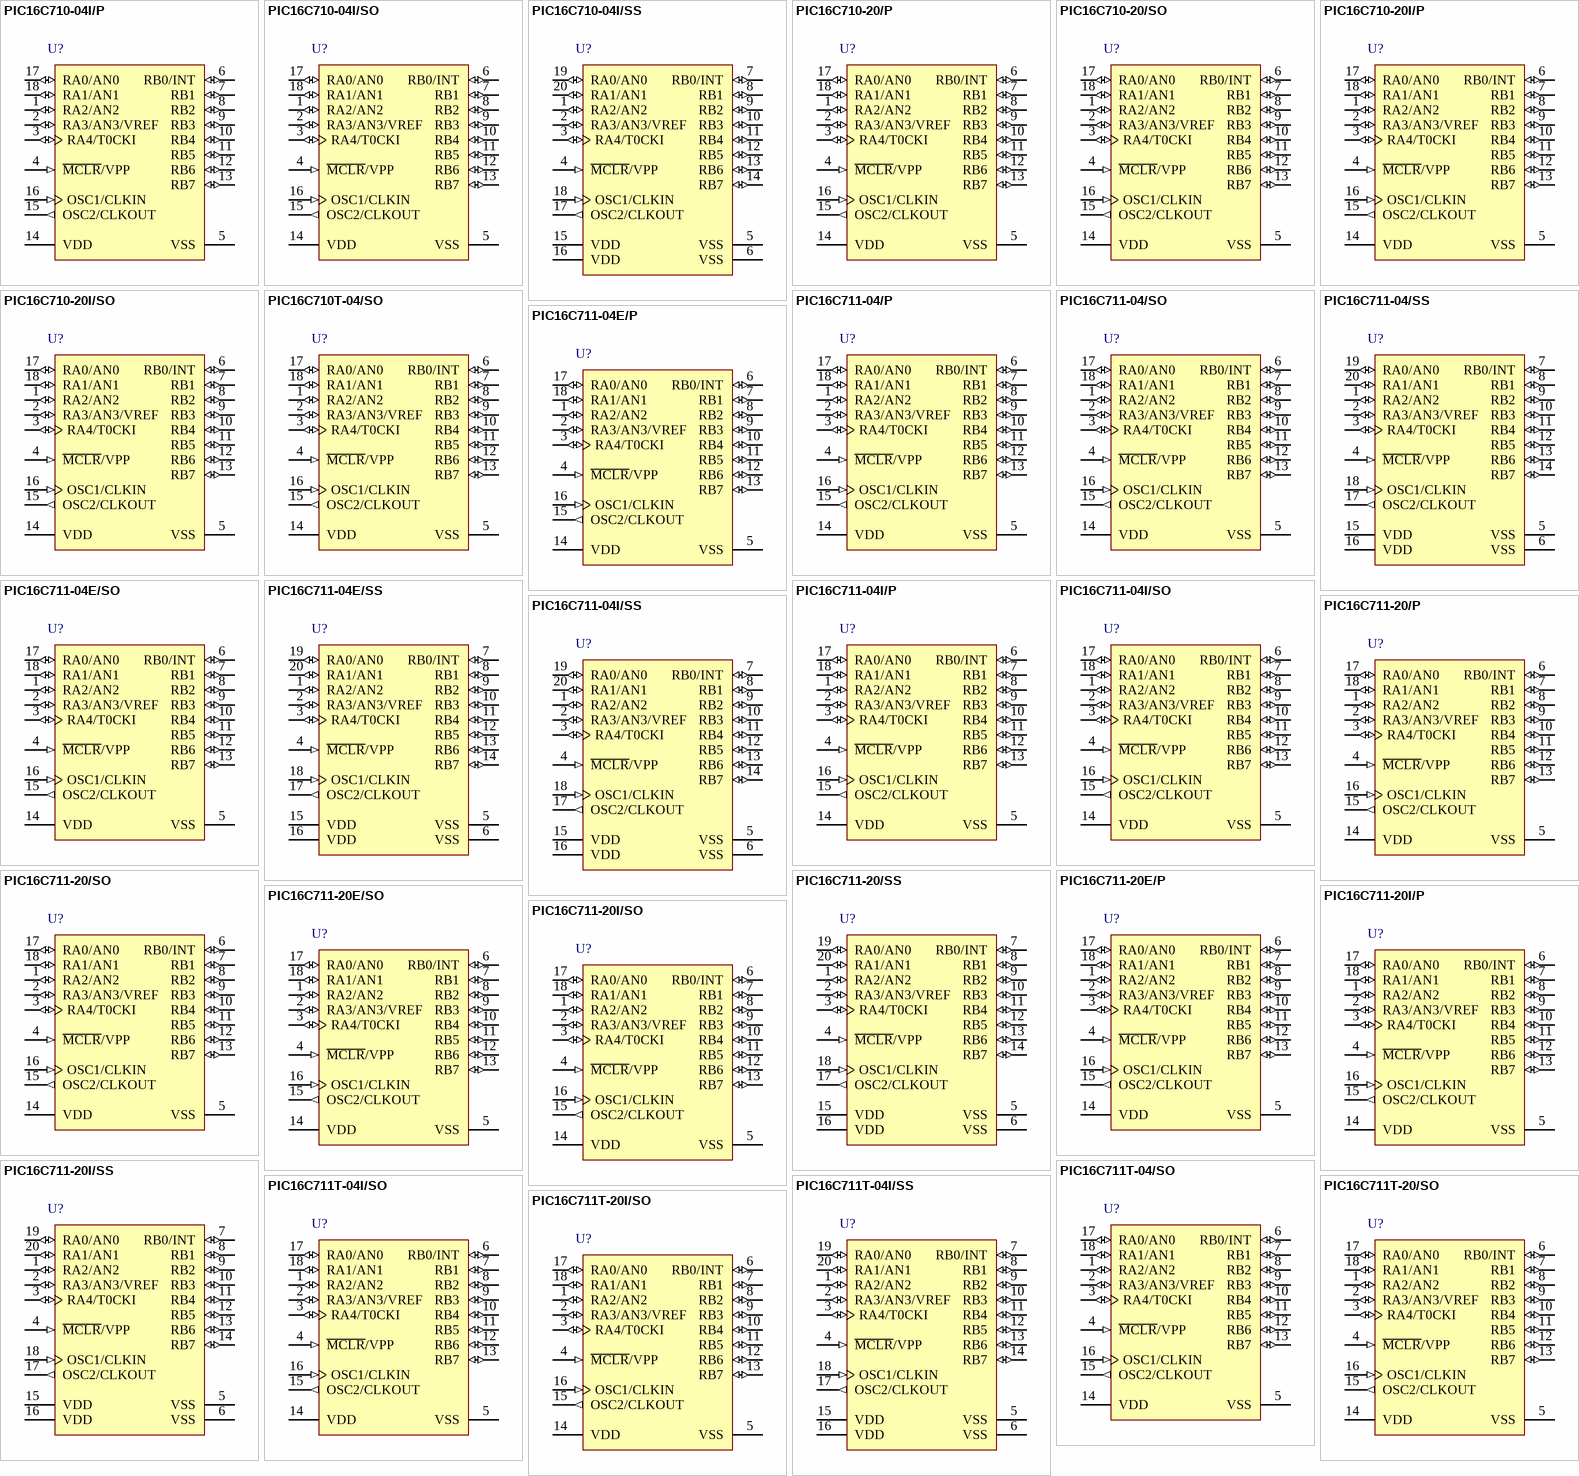
[diagram p26: symbols PIC16C710-04I/P to PIC16C711T-20I/SO]

## PIC16C710-04I/P
designator U?
8-Bit CMOS Microcontroller with A/D Converter, 4 MHz, 13 I/O, -40 to 85 degC, 18-pin PDIP (P18), Tube; Manufacturer: Microchip; PartNumber: PIC16C710-04I/P; # of A/D Channels: 4; I/O Pins: 13; Memory Type: OTP; Operation Voltage Range: 2.5V - 6V; Program Memory KBytes: 0.875; Program Memory KWords: 0.5; RAM: 36; Timers: 1 - 8-bit; DatasheetVersion: Rev. A; PackageVersion: C04-007B, 12/2012; PackageReference: PDIP-P18; PackageDescription: 18-Lead Plastic Dual In-Line, Row Spacing 7.62 mm, 22.86 x 6.6 mm Body, 2.54 mm Pitch; Supplier 1: Digi-Key; Supplier Part Number 1: PIC16C710-04I/P-ND; Supplier 2: Newark; Supplier Part Number 2: 23C4443; Supplier 3: Mouser; Supplier Part Number 3: 579-PIC16C710-04I/P; Max. CPU Speed MHz: 4; Packing: TUBE; RoHS: TRUE; Mounting Technology: Through Hole; ComponentLink1Description: Datasheet; ComponentLink1URL: http://ww1.microchip.com/downloads/en/DeviceDoc/30272a.pdf; ComponentLink2Description: Package Specification; ComponentLink2URL: http://www.microchip.com/stellent/groups/techpub_sg/documents/packagingspec/en012702.pdf; ComponentLink3Description: URL Link1; ComponentLink3URL: Product URL:http://www.microchip.com/datasheet/PIC16C710
footprint MCHP-PDIP-P18 (DIP, 18-Leads, Body 22.83x6.604mm, Pitch 2.54mm)
pins: 1 RA2/AN2 (io), 2 RA3/AN3/VREF (io), 3 RA4/T0CKI (io), 4 ~{MCLR}/VPP (in), 5 VSS (power) "Ground reference for logic and I/O pins.", 6 RB0/INT (io), 7 RB1 (io) "PORTB is a bi-directional I/O port. PORTB can be software programmed for internal weak pull-up on all inputs.", 8 RB2 (io) "PORTB is a bi-directional I/O port. PORTB can be software programmed for internal weak pull-up on all inputs.", 9 RB3 (io) "PORTB is a bi-directional I/O port. PORTB can be software programmed for internal weak pull-up on all inputs.", 10 RB4 (io) "PORTB is a bi-directional I/O port. PORTB can be software programmed for internal weak pull-up on all inputs. Interrupt on change pin.", 11 RB5 (io) "PORTB is a bi-directional I/O port. PORTB can be software programmed for internal weak pull-up on all inputs. Interrupt on change pin.", 12 RB6 (io) "PORTB is a bi-directional I/O port. PORTB can be software programmed for internal weak pull-up on all inputs. Interrupt on change pin. Serial programming clock.", 13 RB7 (io) "PORTB is a bi-directional I/O port. PORTB can be software programmed for internal weak pull-up on all inputs. Interrupt on change pin. Serial programming data", 14 VDD (power) "Positive supply for logic and I/O pins.", 15 OSC2/CLKOUT (out), 16 OSC1/CLKIN (in), 17 RA0/AN0 (io), 18 RA1/AN1 (io)